# EAGLE library part IC-MHM (library encoders)
iC-Haus iC-MHM 14-BIT ABSOLUTE ANGLE HALL ENCODER
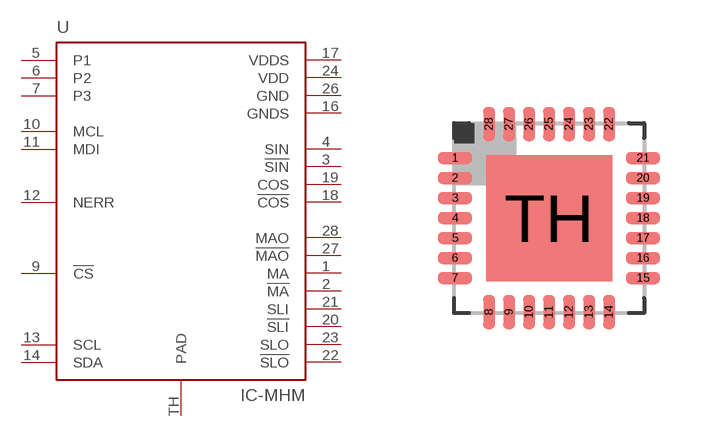
[diagram p2: symbol with the pads of QFN28; footprint QFN28]

Designator prefix U

## IC-MHM (MF: iC-Haus; MPN: IC-MHM; REVIEWED: NO; TESTED: NO)  [QFN28]
1  MA  in
2  !MA  in
3  !SIN  out
4  SIN  out
5  P1
6  P2
7  P3
9  !CS  in
10  MCL
11  MDI
12  NERR  oc
13  SCL
14  SDA
16  GNDS  sup
17  VDDS  pas
18  !COS  out
19  COS  out
20  !SLI  in
21  SLI  in
22  !SLO  out
23  SLO  out
24  VDD  pas
26  GND  sup
27  !MAO  out
28  MAO  out
TH  PAD  pas

## Footprint QFN28 (pad centres in mm)
smd 0.85 x 0.3: 1 -2.35,1.5; 2 -2.35,1; 3 -2.35,0.5; 4 -2.35,0; 5 -2.35,-0.5; 6 -2.35,-1; 7 -2.35,-1.5; 15 2.35,-1.5; 16 2.35,-1; 17 2.35,-0.5; 18 2.35,0; 19 2.35,0.5; 20 2.35,1; 21 2.35,1.5
smd 0.3 x 0.85: 8 -1.5,-2.35; 9 -1,-2.35; 10 -0.5,-2.35; 11 0,-2.35; 12 0.5,-2.35; 13 1,-2.35; 14 1.5,-2.35; 22 1.5,2.35; 23 1,2.35; 24 0.5,2.35; 25 0,2.35; 26 -0.5,2.35; 27 -1,2.35; 28 -1.5,2.35
smd 3.15 x 3.15: TH 0,0